# Altium footprint library Connector_PinSocket_1.27mm.PcbLib: 246 footprints (part 14 of 16)
Each footprint in its own frame and in the unit in brackets; x right, y up, seen from the top. Pads: shape width x height; smd on the part's side, far side on the other; paste and mask are expansions set on the pad; w line width, h text height; cw(c..) or ccw(c..) is an arc to the next point about the centre after c.
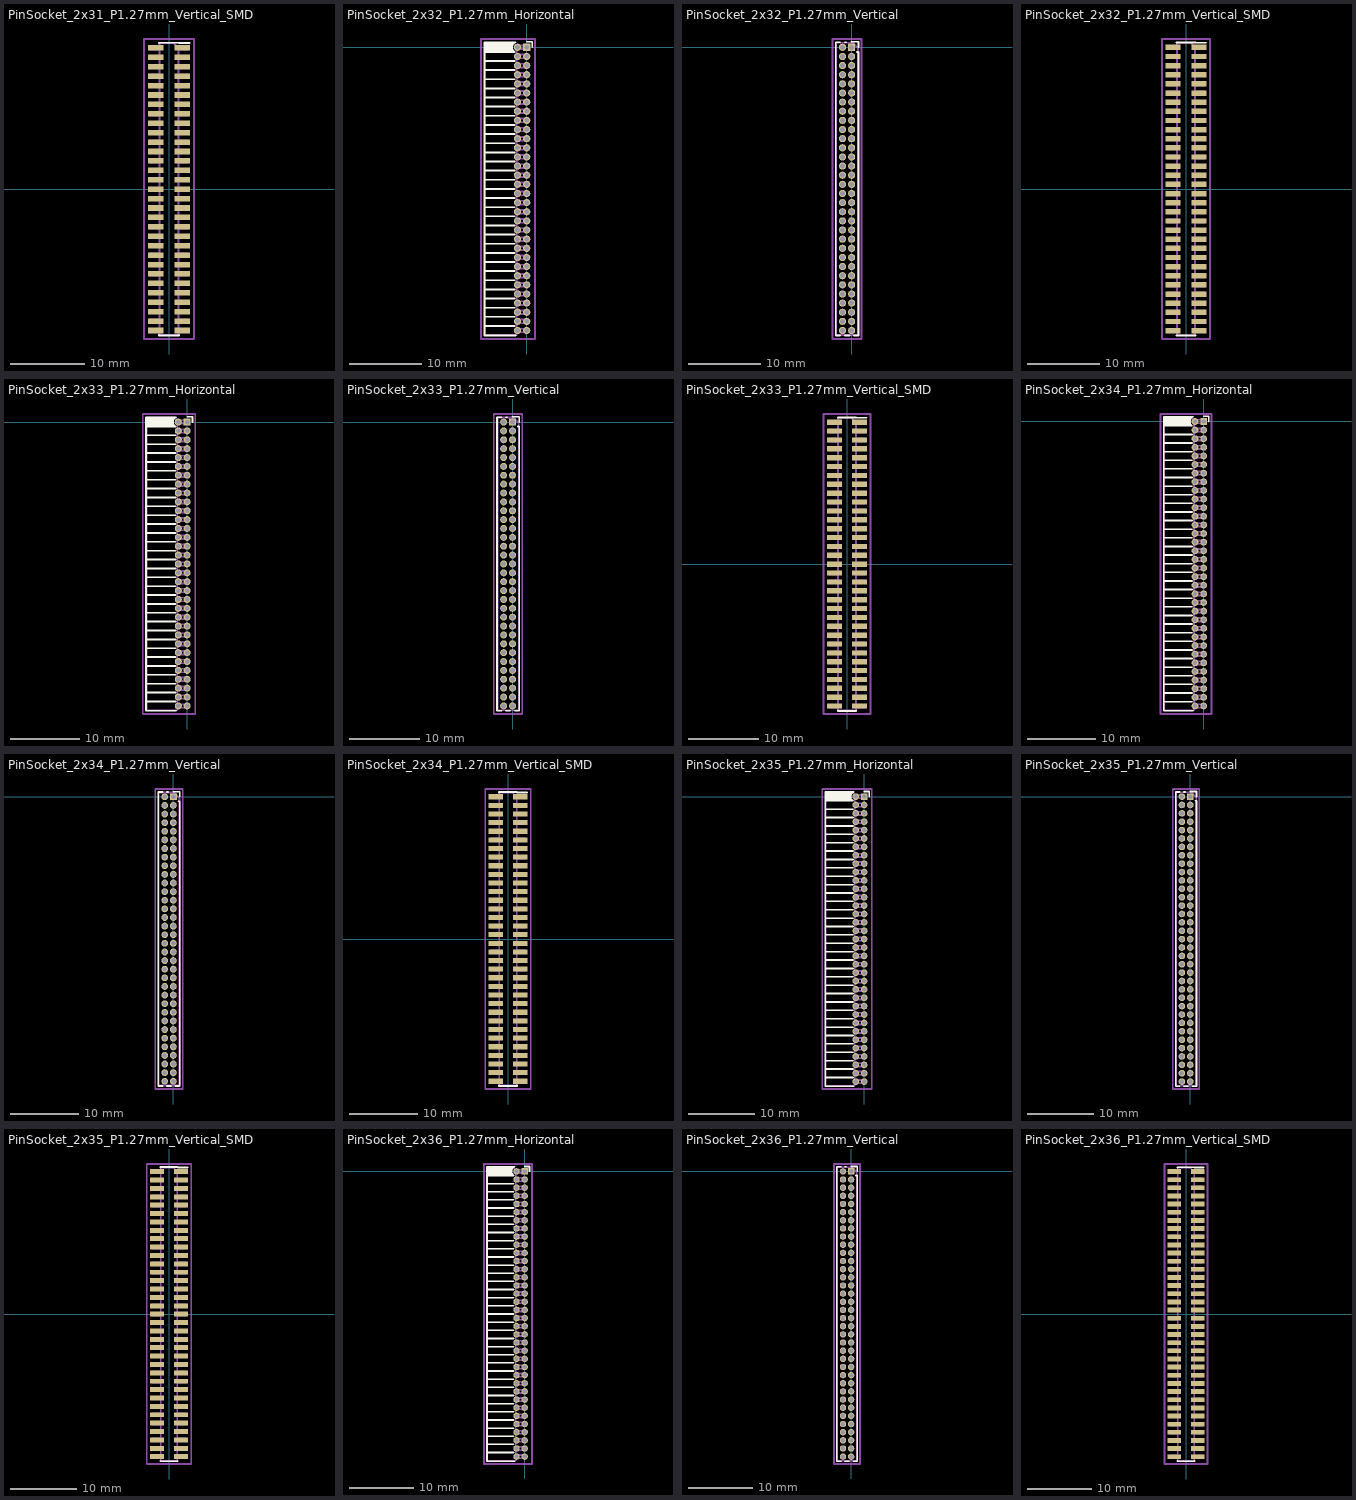
[diagram p13: the footprints below, top view; thin cyan lines are the x and y axes]

## PinSocket_2x31_P1.27mm_Vertical_SMD [mm]
pads (62):
  rect 2.1x0.75 smd: 1(1.8,19.05) 2(-1.8,19.05) 3(1.8,17.78) 4(-1.8,17.78) 5(1.8,16.51) 6(-1.8,16.51) 7(1.8,15.24) 8(-1.8,15.24) 9(1.8,13.97) 10(-1.8,13.97) 11(1.8,12.7) 12(-1.8,12.7) 13(1.8,11.43) 14(-1.8,11.43) 15(1.8,10.16) 16(-1.8,10.16) 17(1.8,8.89) 18(-1.8,8.89) 19(1.8,7.62) 20(-1.8,7.62) 21(1.8,6.35) 22(-1.8,6.35) 23(1.8,5.08) 24(-1.8,5.08) 25(1.8,3.81) 26(-1.8,3.81) 27(1.8,2.54) 28(-1.8,2.54) 29(1.8,1.27) 30(-1.8,1.27) 31(1.8,0) 32(-1.8,0) 33(1.8,-1.27) 34(-1.8,-1.27) 35(1.8,-2.54) 36(-1.8,-2.54) 37(1.8,-3.81) 38(-1.8,-3.81) 39(1.8,-5.08) 40(-1.8,-5.08) 41(1.8,-6.35) 42(-1.8,-6.35) 43(1.8,-7.62) 44(-1.8,-7.62) 45(1.8,-8.89) 46(-1.8,-8.89) 47(1.8,-10.16) 48(-1.8,-10.16) 49(1.8,-11.43) 50(-1.8,-11.43) 51(1.8,-12.7) 52(-1.8,-12.7) 53(1.8,-13.97) 54(-1.8,-13.97) 55(1.8,-15.24) 56(-1.8,-15.24) 57(1.8,-16.51) 58(-1.8,-16.51) 59(1.8,-17.78) 60(-1.8,-17.78) 61(1.8,-19.05) 62(-1.8,-19.05)
F.SilkS:
  lines w0.254: -1.33,-19.685 -1.33,-19.745 1.33,-19.745 1.33,-19.685 ; -1.33,19.685 -1.33,19.745 1.33,19.745 1.33,19.685 2.79,19.685
Top Assembly:
  drawing of 191 lines, arcs and shapes, not listed
  text "'.Designator'" at 0.84,-4.047 h1
Top Courtyard:
  lines w0.254: -3.35,-20.2 3.35,-20.2 3.35,20.25 -3.35,20.25 -3.35,-20.2
Top Designator:
  text ".Designator" at -7.618,-0.483 h1.52

## PinSocket_2x32_P1.27mm_Horizontal [mm]
pads (64):
  rect 1x1 hole 0.65: 1(0,0)
  round 1 hole 0.65: 2(-1.27,0) 3(0,-1.27) 4(-1.27,-1.27) 5(0,-2.54) 6(-1.27,-2.54) 7(0,-3.81) 8(-1.27,-3.81) 9(0,-5.08) 10(-1.27,-5.08) 11(0,-6.35) 12(-1.27,-6.35) 13(0,-7.62) 14(-1.27,-7.62) 15(0,-8.89) 16(-1.27,-8.89) 17(0,-10.16) 18(-1.27,-10.16) 19(0,-11.43) 20(-1.27,-11.43) 21(0,-12.7) 22(-1.27,-12.7) 23(0,-13.97) 24(-1.27,-13.97) 25(0,-15.24) 26(-1.27,-15.24) 27(0,-16.51) 28(-1.27,-16.51) 29(0,-17.78) 30(-1.27,-17.78) 31(0,-19.05) 32(-1.27,-19.05) 33(0,-20.32) 34(-1.27,-20.32) 35(0,-21.59) 36(-1.27,-21.59) 37(0,-22.86) 38(-1.27,-22.86) 39(0,-24.13) 40(-1.27,-24.13) 41(0,-25.4) 42(-1.27,-25.4) 43(0,-26.67) 44(-1.27,-26.67) 45(0,-27.94) 46(-1.27,-27.94) 47(0,-29.21) 48(-1.27,-29.21) 49(0,-30.48) 50(-1.27,-30.48) 51(0,-31.75) 52(-1.27,-31.75) 53(0,-33.02) 54(-1.27,-33.02) 55(0,-34.29) 56(-1.27,-34.29) 57(0,-35.56) 58(-1.27,-35.56) 59(0,-36.83) 60(-1.27,-36.83) 61(0,-38.1) 62(-1.27,-38.1) 63(0,-39.37) 64(-1.27,-39.37)
F.SilkS:
  lines w0.254: -5.88,-38.735 -1.688,-38.735 ; -5.88,-37.465 -1.688,-37.465 ; -5.88,-36.195 -1.688,-36.195 ; -5.88,-34.925 -1.688,-34.925 ; -5.88,-33.655 -1.688,-33.655 ; -5.88,-32.385 -1.688,-32.385 ; -5.88,-31.115 -1.688,-31.115 ; -5.88,-29.845 -1.688,-29.845 ; -5.88,-28.575 -1.688,-28.575 ; -5.88,-27.305 -1.688,-27.305 ; -5.88,-26.035 -1.688,-26.035 ; -5.88,-24.765 -1.688,-24.765 ; -5.88,-23.495 -1.688,-23.495 ; -5.88,-22.225 -1.688,-22.225 ; -5.88,-20.955 -1.688,-20.955 ; -5.88,-19.685 -1.688,-19.685 ; -5.88,-18.415 -1.688,-18.415 ; -5.88,-17.145 -1.688,-17.145 ; -5.88,-15.875 -1.688,-15.875 ; -5.88,-14.605 -1.688,-14.605 ; -5.88,-13.335 -1.688,-13.335 ; -5.88,-12.065 -1.688,-12.065 ; -5.88,-10.795 -1.688,-10.795 ; -5.88,-9.525 -1.688,-9.525 ; -5.88,-8.255 -1.688,-8.255 ; -5.88,-6.985 -1.688,-6.985 ; -5.88,-5.715 -1.688,-5.715 ; -5.88,-4.445 -1.688,-4.445 ; -5.88,-3.175 -1.688,-3.175 ; -5.88,-1.905 -1.688,-1.905 ; -5.88,-0.635 -1.688,-0.635 ; -5.88,-0.525 -1.82,-0.525 ; -5.88,-0.415 -1.907,-0.415 ; -5.88,-0.305 -1.966,-0.305 ; -5.88,-0.195 -2.005,-0.195 ; -5.88,-0.085 -2.025,-0.085 ; -5.88,0.025 -2.03,0.025 ; -5.88,0.135 -2.018,0.135 ; -5.88,0.245 -1.989,0.245 ; -5.88,0.355 -1.942,0.355 ; -5.88,0.465 -1.871,0.465 ; -5.88,0.575 -1.767,0.575 ; -1.578,-40.065 -5.88,-40.065 -5.88,0.695 -1.578,0.695 ; 0,0.76 0.76,0.76 0.76,0
Top Assembly:
  lines w0.254: -1.42,-39.62 0,-39.62 0,-39.12 -1.42,-39.12 ; -1.42,-38.35 0,-38.35 0,-37.85 -1.42,-37.85 ; -1.42,-37.08 0,-37.08 0,-36.58 -1.42,-36.58 ; -1.42,-35.81 0,-35.81 0,-35.31 -1.42,-35.31 ; -1.42,-34.54 0,-34.54 0,-34.04 -1.42,-34.04 ; -1.42,-33.27 0,-33.27 0,-32.77 -1.42,-32.77 ; -1.42,-32 0,-32 0,-31.5 -1.42,-31.5 ; -1.42,-30.73 0,-30.73 0,-30.23 -1.42,-30.23 ; -1.42,-29.46 0,-29.46 0,-28.96 -1.42,-28.96 ; -1.42,-28.19 0,-28.19 0,-27.69 -1.42,-27.69 ; -1.42,-26.92 0,-26.92 0,-26.42 -1.42,-26.42 ; -1.42,-25.65 0,-25.65 0,-25.15 -1.42,-25.15 ; -1.42,-24.38 0,-24.38 0,-23.88 -1.42,-23.88 ; -1.42,-23.11 0,-23.11 0,-22.61 -1.42,-22.61 ; -1.42,-21.84 0,-21.84 0,-21.34 -1.42,-21.34 ; -1.42,-20.57 0,-20.57 0,-20.07 -1.42,-20.07 ; -1.42,-19.3 0,-19.3 0,-18.8 -1.42,-18.8 ; -1.42,-18.03 0,-18.03 0,-17.53 -1.42,-17.53 ; -1.42,-16.76 0,-16.76 0,-16.26 -1.42,-16.26 ; -1.42,-15.49 0,-15.49 0,-14.99 -1.42,-14.99 ; -1.42,-14.22 0,-14.22 0,-13.72 -1.42,-13.72 ; -1.42,-12.95 0,-12.95 0,-12.45 -1.42,-12.45 ; -1.42,-11.68 0,-11.68 0,-11.18 -1.42,-11.18 ; -1.42,-10.41 0,-10.41 0,-9.91 -1.42,-9.91 ; -1.42,-9.14 0,-9.14 0,-8.64 -1.42,-8.64 ; -1.42,-7.87 0,-7.87 0,-7.37 -1.42,-7.37 ; -1.42,-6.6 0,-6.6 0,-6.1 -1.42,-6.1 ; -1.42,-5.33 0,-5.33 0,-4.83 -1.42,-4.83 ; -1.42,-4.06 0,-4.06 0,-3.56 -1.42,-3.56 ; -1.42,-2.79 0,-2.79 0,-2.29 -1.42,-2.29 ; -1.42,-1.52 0,-1.52 0,-1.02 -1.42,-1.02 ; -1.42,-0.25 0,-0.25 0,0.25 -1.42,0.25 ; -1.42,0.25 -1.42,-40.005 -5.82,-40.005 -5.82,0.635 -1.805,0.635 -1.42,0.25
  text "'.Designator'" at -2.78,-23.732 h1
Top Courtyard:
  lines w0.254: -6.35,-40.55 1.15,-40.55 1.15,1.15 -6.35,1.15 -6.35,-40.55
Top Designator:
  text ".Designator" at -10.218,-20.208 h1.52

## PinSocket_2x32_P1.27mm_Vertical [mm]
pads (64):
  rect 1x1 hole 0.7: 1(0,0)
  round 1 hole 0.7: 2(-1.27,0) 3(0,-1.27) 4(-1.27,-1.27) 5(0,-2.54) 6(-1.27,-2.54) 7(0,-3.81) 8(-1.27,-3.81) 9(0,-5.08) 10(-1.27,-5.08) 11(0,-6.35) 12(-1.27,-6.35) 13(0,-7.62) 14(-1.27,-7.62) 15(0,-8.89) 16(-1.27,-8.89) 17(0,-10.16) 18(-1.27,-10.16) 19(0,-11.43) 20(-1.27,-11.43) 21(0,-12.7) 22(-1.27,-12.7) 23(0,-13.97) 24(-1.27,-13.97) 25(0,-15.24) 26(-1.27,-15.24) 27(0,-16.51) 28(-1.27,-16.51) 29(0,-17.78) 30(-1.27,-17.78) 31(0,-19.05) 32(-1.27,-19.05) 33(0,-20.32) 34(-1.27,-20.32) 35(0,-21.59) 36(-1.27,-21.59) 37(0,-22.86) 38(-1.27,-22.86) 39(0,-24.13) 40(-1.27,-24.13) 41(0,-25.4) 42(-1.27,-25.4) 43(0,-26.67) 44(-1.27,-26.67) 45(0,-27.94) 46(-1.27,-27.94) 47(0,-29.21) 48(-1.27,-29.21) 49(0,-30.48) 50(-1.27,-30.48) 51(0,-31.75) 52(-1.27,-31.75) 53(0,-33.02) 54(-1.27,-33.02) 55(0,-34.29) 56(-1.27,-34.29) 57(0,-35.56) 58(-1.27,-35.56) 59(0,-36.83) 60(-1.27,-36.83) 61(0,-38.1) 62(-1.27,-38.1) 63(0,-39.37) 64(-1.27,-39.37)
F.SilkS:
  lines w0.254: -1.578,-40.065 -2.22,-40.065 -2.22,0.695 -1.578,0.695 ; -0.962,-40.065 -0.308,-40.065 ; -0.962,0.695 -0.76,0.695 ; 0,0.76 0.95,0.76 0.95,0 ; 0.308,-40.065 0.95,-40.065 0.95,-0.635 0.76,-0.635
Top Assembly:
  lines w0.254: -2.16,-40.005 0.89,-40.005 0.89,-0.128 0.128,0.635 -2.16,0.635 -2.16,-40.005
  text "'.Designator'" at 0.205,-23.732 h1
Top Courtyard:
  lines w0.254: -2.67,-40.55 1.38,-40.55 1.38,1.15 -2.67,1.15 -2.67,-40.55
Top Designator:
  text ".Designator" at -8.263,-20.208 h1.52

## PinSocket_2x32_P1.27mm_Vertical_SMD [mm]
pads (64):
  rect 2.1x0.75 smd: 1(1.8,19.685) 2(-1.8,19.685) 3(1.8,18.415) 4(-1.8,18.415) 5(1.8,17.145) 6(-1.8,17.145) 7(1.8,15.875) 8(-1.8,15.875) 9(1.8,14.605) 10(-1.8,14.605) 11(1.8,13.335) 12(-1.8,13.335) 13(1.8,12.065) 14(-1.8,12.065) 15(1.8,10.795) 16(-1.8,10.795) 17(1.8,9.525) 18(-1.8,9.525) 19(1.8,8.255) 20(-1.8,8.255) 21(1.8,6.985) 22(-1.8,6.985) 23(1.8,5.715) 24(-1.8,5.715) 25(1.8,4.445) 26(-1.8,4.445) 27(1.8,3.175) 28(-1.8,3.175) 29(1.8,1.905) 30(-1.8,1.905) 31(1.8,0.635) 32(-1.8,0.635) 33(1.8,-0.635) 34(-1.8,-0.635) 35(1.8,-1.905) 36(-1.8,-1.905) 37(1.8,-3.175) 38(-1.8,-3.175) 39(1.8,-4.445) 40(-1.8,-4.445) 41(1.8,-5.715) 42(-1.8,-5.715) 43(1.8,-6.985) 44(-1.8,-6.985) 45(1.8,-8.255) 46(-1.8,-8.255) 47(1.8,-9.525) 48(-1.8,-9.525) 49(1.8,-10.795) 50(-1.8,-10.795) 51(1.8,-12.065) 52(-1.8,-12.065) 53(1.8,-13.335) 54(-1.8,-13.335) 55(1.8,-14.605) 56(-1.8,-14.605) 57(1.8,-15.875) 58(-1.8,-15.875) 59(1.8,-17.145) 60(-1.8,-17.145) 61(1.8,-18.415) 62(-1.8,-18.415) 63(1.8,-19.685) 64(-1.8,-19.685)
F.SilkS:
  lines w0.254: -1.33,-20.32 -1.33,-20.38 1.33,-20.38 1.33,-20.32 ; -1.33,20.32 -1.33,20.38 1.33,20.38 1.33,20.32 2.79,20.32
Top Assembly:
  drawing of 197 lines, arcs and shapes, not listed
  text "'.Designator'" at 0.84,-4.047 h1
Top Courtyard:
  lines w0.254: -3.35,-20.85 3.35,-20.85 3.35,20.85 -3.35,20.85 -3.35,-20.85
Top Designator:
  text ".Designator" at -7.618,-0.508 h1.52

## PinSocket_2x33_P1.27mm_Horizontal [mm]
pads (66):
  rect 1x1 hole 0.65: 1(0,0)
  round 1 hole 0.65: 2(-1.27,0) 3(0,-1.27) 4(-1.27,-1.27) 5(0,-2.54) 6(-1.27,-2.54) 7(0,-3.81) 8(-1.27,-3.81) 9(0,-5.08) 10(-1.27,-5.08) 11(0,-6.35) 12(-1.27,-6.35) 13(0,-7.62) 14(-1.27,-7.62) 15(0,-8.89) 16(-1.27,-8.89) 17(0,-10.16) 18(-1.27,-10.16) 19(0,-11.43) 20(-1.27,-11.43) 21(0,-12.7) 22(-1.27,-12.7) 23(0,-13.97) 24(-1.27,-13.97) 25(0,-15.24) 26(-1.27,-15.24) 27(0,-16.51) 28(-1.27,-16.51) 29(0,-17.78) 30(-1.27,-17.78) 31(0,-19.05) 32(-1.27,-19.05) 33(0,-20.32) 34(-1.27,-20.32) 35(0,-21.59) 36(-1.27,-21.59) 37(0,-22.86) 38(-1.27,-22.86) 39(0,-24.13) 40(-1.27,-24.13) 41(0,-25.4) 42(-1.27,-25.4) 43(0,-26.67) 44(-1.27,-26.67) 45(0,-27.94) 46(-1.27,-27.94) 47(0,-29.21) 48(-1.27,-29.21) 49(0,-30.48) 50(-1.27,-30.48) 51(0,-31.75) 52(-1.27,-31.75) 53(0,-33.02) 54(-1.27,-33.02) 55(0,-34.29) 56(-1.27,-34.29) 57(0,-35.56) 58(-1.27,-35.56) 59(0,-36.83) 60(-1.27,-36.83) 61(0,-38.1) 62(-1.27,-38.1) 63(0,-39.37) 64(-1.27,-39.37) 65(0,-40.64) 66(-1.27,-40.64)
F.SilkS:
  lines w0.254: -5.88,-40.005 -1.688,-40.005 ; -5.88,-38.735 -1.688,-38.735 ; -5.88,-37.465 -1.688,-37.465 ; -5.88,-36.195 -1.688,-36.195 ; -5.88,-34.925 -1.688,-34.925 ; -5.88,-33.655 -1.688,-33.655 ; -5.88,-32.385 -1.688,-32.385 ; -5.88,-31.115 -1.688,-31.115 ; -5.88,-29.845 -1.688,-29.845 ; -5.88,-28.575 -1.688,-28.575 ; -5.88,-27.305 -1.688,-27.305 ; -5.88,-26.035 -1.688,-26.035 ; -5.88,-24.765 -1.688,-24.765 ; -5.88,-23.495 -1.688,-23.495 ; -5.88,-22.225 -1.688,-22.225 ; -5.88,-20.955 -1.688,-20.955 ; -5.88,-19.685 -1.688,-19.685 ; -5.88,-18.415 -1.688,-18.415 ; -5.88,-17.145 -1.688,-17.145 ; -5.88,-15.875 -1.688,-15.875 ; -5.88,-14.605 -1.688,-14.605 ; -5.88,-13.335 -1.688,-13.335 ; -5.88,-12.065 -1.688,-12.065 ; -5.88,-10.795 -1.688,-10.795 ; -5.88,-9.525 -1.688,-9.525 ; -5.88,-8.255 -1.688,-8.255 ; -5.88,-6.985 -1.688,-6.985 ; -5.88,-5.715 -1.688,-5.715 ; -5.88,-4.445 -1.688,-4.445 ; -5.88,-3.175 -1.688,-3.175 ; -5.88,-1.905 -1.688,-1.905 ; -5.88,-0.635 -1.688,-0.635 ; -5.88,-0.525 -1.82,-0.525 ; -5.88,-0.415 -1.907,-0.415 ; -5.88,-0.305 -1.966,-0.305 ; -5.88,-0.195 -2.005,-0.195 ; -5.88,-0.085 -2.025,-0.085 ; -5.88,0.025 -2.03,0.025 ; -5.88,0.135 -2.018,0.135 ; -5.88,0.245 -1.989,0.245 ; -5.88,0.355 -1.942,0.355 ; -5.88,0.465 -1.871,0.465 ; -5.88,0.575 -1.767,0.575 ; -1.578,-41.335 -5.88,-41.335 -5.88,0.695 -1.578,0.695 ; 0,0.76 0.76,0.76 0.76,0
Top Assembly:
  lines w0.254: -1.42,-40.89 0,-40.89 0,-40.39 -1.42,-40.39 ; -1.42,-39.62 0,-39.62 0,-39.12 -1.42,-39.12 ; -1.42,-38.35 0,-38.35 0,-37.85 -1.42,-37.85 ; -1.42,-37.08 0,-37.08 0,-36.58 -1.42,-36.58 ; -1.42,-35.81 0,-35.81 0,-35.31 -1.42,-35.31 ; -1.42,-34.54 0,-34.54 0,-34.04 -1.42,-34.04 ; -1.42,-33.27 0,-33.27 0,-32.77 -1.42,-32.77 ; -1.42,-32 0,-32 0,-31.5 -1.42,-31.5 ; -1.42,-30.73 0,-30.73 0,-30.23 -1.42,-30.23 ; -1.42,-29.46 0,-29.46 0,-28.96 -1.42,-28.96 ; -1.42,-28.19 0,-28.19 0,-27.69 -1.42,-27.69 ; -1.42,-26.92 0,-26.92 0,-26.42 -1.42,-26.42 ; -1.42,-25.65 0,-25.65 0,-25.15 -1.42,-25.15 ; -1.42,-24.38 0,-24.38 0,-23.88 -1.42,-23.88 ; -1.42,-23.11 0,-23.11 0,-22.61 -1.42,-22.61 ; -1.42,-21.84 0,-21.84 0,-21.34 -1.42,-21.34 ; -1.42,-20.57 0,-20.57 0,-20.07 -1.42,-20.07 ; -1.42,-19.3 0,-19.3 0,-18.8 -1.42,-18.8 ; -1.42,-18.03 0,-18.03 0,-17.53 -1.42,-17.53 ; -1.42,-16.76 0,-16.76 0,-16.26 -1.42,-16.26 ; -1.42,-15.49 0,-15.49 0,-14.99 -1.42,-14.99 ; -1.42,-14.22 0,-14.22 0,-13.72 -1.42,-13.72 ; -1.42,-12.95 0,-12.95 0,-12.45 -1.42,-12.45 ; -1.42,-11.68 0,-11.68 0,-11.18 -1.42,-11.18 ; -1.42,-10.41 0,-10.41 0,-9.91 -1.42,-9.91 ; -1.42,-9.14 0,-9.14 0,-8.64 -1.42,-8.64 ; -1.42,-7.87 0,-7.87 0,-7.37 -1.42,-7.37 ; -1.42,-6.6 0,-6.6 0,-6.1 -1.42,-6.1 ; -1.42,-5.33 0,-5.33 0,-4.83 -1.42,-4.83 ; -1.42,-4.06 0,-4.06 0,-3.56 -1.42,-3.56 ; -1.42,-2.79 0,-2.79 0,-2.29 -1.42,-2.29 ; -1.42,-1.52 0,-1.52 0,-1.02 -1.42,-1.02 ; -1.42,-0.25 0,-0.25 0,0.25 -1.42,0.25 ; -1.42,0.25 -1.42,-41.275 -5.82,-41.275 -5.82,0.635 -1.805,0.635 -1.42,0.25
  text "'.Designator'" at -2.78,-24.367 h1
Top Courtyard:
  lines w0.254: -6.35,-41.8 1.15,-41.8 1.15,1.15 -6.35,1.15 -6.35,-41.8
Top Designator:
  text ".Designator" at -10.218,-20.833 h1.52

## PinSocket_2x33_P1.27mm_Vertical [mm]
pads (66):
  rect 1x1 hole 0.7: 1(0,0)
  round 1 hole 0.7: 2(-1.27,0) 3(0,-1.27) 4(-1.27,-1.27) 5(0,-2.54) 6(-1.27,-2.54) 7(0,-3.81) 8(-1.27,-3.81) 9(0,-5.08) 10(-1.27,-5.08) 11(0,-6.35) 12(-1.27,-6.35) 13(0,-7.62) 14(-1.27,-7.62) 15(0,-8.89) 16(-1.27,-8.89) 17(0,-10.16) 18(-1.27,-10.16) 19(0,-11.43) 20(-1.27,-11.43) 21(0,-12.7) 22(-1.27,-12.7) 23(0,-13.97) 24(-1.27,-13.97) 25(0,-15.24) 26(-1.27,-15.24) 27(0,-16.51) 28(-1.27,-16.51) 29(0,-17.78) 30(-1.27,-17.78) 31(0,-19.05) 32(-1.27,-19.05) 33(0,-20.32) 34(-1.27,-20.32) 35(0,-21.59) 36(-1.27,-21.59) 37(0,-22.86) 38(-1.27,-22.86) 39(0,-24.13) 40(-1.27,-24.13) 41(0,-25.4) 42(-1.27,-25.4) 43(0,-26.67) 44(-1.27,-26.67) 45(0,-27.94) 46(-1.27,-27.94) 47(0,-29.21) 48(-1.27,-29.21) 49(0,-30.48) 50(-1.27,-30.48) 51(0,-31.75) 52(-1.27,-31.75) 53(0,-33.02) 54(-1.27,-33.02) 55(0,-34.29) 56(-1.27,-34.29) 57(0,-35.56) 58(-1.27,-35.56) 59(0,-36.83) 60(-1.27,-36.83) 61(0,-38.1) 62(-1.27,-38.1) 63(0,-39.37) 64(-1.27,-39.37) 65(0,-40.64) 66(-1.27,-40.64)
F.SilkS:
  lines w0.254: -1.578,-41.335 -2.22,-41.335 -2.22,0.695 -1.578,0.695 ; -0.962,-41.335 -0.308,-41.335 ; -0.962,0.695 -0.76,0.695 ; 0,0.76 0.95,0.76 0.95,0 ; 0.308,-41.335 0.95,-41.335 0.95,-0.635 0.76,-0.635
Top Assembly:
  lines w0.254: -2.16,-41.275 0.89,-41.275 0.89,-0.128 0.128,0.635 -2.16,0.635 -2.16,-41.275
  text "'.Designator'" at 0.205,-24.367 h1
Top Courtyard:
  lines w0.254: -2.67,-41.8 1.38,-41.8 1.38,1.15 -2.67,1.15 -2.67,-41.8
Top Designator:
  text ".Designator" at -8.263,-20.833 h1.52

## PinSocket_2x33_P1.27mm_Vertical_SMD [mm]
pads (66):
  rect 2.1x0.75 smd: 1(1.8,20.32) 2(-1.8,20.32) 3(1.8,19.05) 4(-1.8,19.05) 5(1.8,17.78) 6(-1.8,17.78) 7(1.8,16.51) 8(-1.8,16.51) 9(1.8,15.24) 10(-1.8,15.24) 11(1.8,13.97) 12(-1.8,13.97) 13(1.8,12.7) 14(-1.8,12.7) 15(1.8,11.43) 16(-1.8,11.43) 17(1.8,10.16) 18(-1.8,10.16) 19(1.8,8.89) 20(-1.8,8.89) 21(1.8,7.62) 22(-1.8,7.62) 23(1.8,6.35) 24(-1.8,6.35) 25(1.8,5.08) 26(-1.8,5.08) 27(1.8,3.81) 28(-1.8,3.81) 29(1.8,2.54) 30(-1.8,2.54) 31(1.8,1.27) 32(-1.8,1.27) 33(1.8,0) 34(-1.8,0) 35(1.8,-1.27) 36(-1.8,-1.27) 37(1.8,-2.54) 38(-1.8,-2.54) 39(1.8,-3.81) 40(-1.8,-3.81) 41(1.8,-5.08) 42(-1.8,-5.08) 43(1.8,-6.35) 44(-1.8,-6.35) 45(1.8,-7.62) 46(-1.8,-7.62) 47(1.8,-8.89) 48(-1.8,-8.89) 49(1.8,-10.16) 50(-1.8,-10.16) 51(1.8,-11.43) 52(-1.8,-11.43) 53(1.8,-12.7) 54(-1.8,-12.7) 55(1.8,-13.97) 56(-1.8,-13.97) 57(1.8,-15.24) 58(-1.8,-15.24) 59(1.8,-16.51) 60(-1.8,-16.51) 61(1.8,-17.78) 62(-1.8,-17.78) 63(1.8,-19.05) 64(-1.8,-19.05) 65(1.8,-20.32) 66(-1.8,-20.32)
F.SilkS:
  lines w0.254: -1.33,-20.955 -1.33,-21.015 1.33,-21.015 1.33,-20.955 ; -1.33,20.955 -1.33,21.015 1.33,21.015 1.33,20.955 2.79,20.955
Top Assembly:
  drawing of 203 lines, arcs and shapes, not listed
  text "'.Designator'" at 0.84,-4.047 h1
Top Courtyard:
  lines w0.254: -3.35,-21.45 3.35,-21.45 3.35,21.5 -3.35,21.5 -3.35,-21.45
Top Designator:
  text ".Designator" at -7.618,-0.483 h1.52

## PinSocket_2x34_P1.27mm_Horizontal [mm]
pads (68):
  rect 1x1 hole 0.65: 1(0,0)
  round 1 hole 0.65: 2(-1.27,0) 3(0,-1.27) 4(-1.27,-1.27) 5(0,-2.54) 6(-1.27,-2.54) 7(0,-3.81) 8(-1.27,-3.81) 9(0,-5.08) 10(-1.27,-5.08) 11(0,-6.35) 12(-1.27,-6.35) 13(0,-7.62) 14(-1.27,-7.62) 15(0,-8.89) 16(-1.27,-8.89) 17(0,-10.16) 18(-1.27,-10.16) 19(0,-11.43) 20(-1.27,-11.43) 21(0,-12.7) 22(-1.27,-12.7) 23(0,-13.97) 24(-1.27,-13.97) 25(0,-15.24) 26(-1.27,-15.24) 27(0,-16.51) 28(-1.27,-16.51) 29(0,-17.78) 30(-1.27,-17.78) 31(0,-19.05) 32(-1.27,-19.05) 33(0,-20.32) 34(-1.27,-20.32) 35(0,-21.59) 36(-1.27,-21.59) 37(0,-22.86) 38(-1.27,-22.86) 39(0,-24.13) 40(-1.27,-24.13) 41(0,-25.4) 42(-1.27,-25.4) 43(0,-26.67) 44(-1.27,-26.67) 45(0,-27.94) 46(-1.27,-27.94) 47(0,-29.21) 48(-1.27,-29.21) 49(0,-30.48) 50(-1.27,-30.48) 51(0,-31.75) 52(-1.27,-31.75) 53(0,-33.02) 54(-1.27,-33.02) 55(0,-34.29) 56(-1.27,-34.29) 57(0,-35.56) 58(-1.27,-35.56) 59(0,-36.83) 60(-1.27,-36.83) 61(0,-38.1) 62(-1.27,-38.1) 63(0,-39.37) 64(-1.27,-39.37) 65(0,-40.64) 66(-1.27,-40.64) 67(0,-41.91) 68(-1.27,-41.91)
F.SilkS:
  lines w0.254: -5.88,-41.275 -1.688,-41.275 ; -5.88,-40.005 -1.688,-40.005 ; -5.88,-38.735 -1.688,-38.735 ; -5.88,-37.465 -1.688,-37.465 ; -5.88,-36.195 -1.688,-36.195 ; -5.88,-34.925 -1.688,-34.925 ; -5.88,-33.655 -1.688,-33.655 ; -5.88,-32.385 -1.688,-32.385 ; -5.88,-31.115 -1.688,-31.115 ; -5.88,-29.845 -1.688,-29.845 ; -5.88,-28.575 -1.688,-28.575 ; -5.88,-27.305 -1.688,-27.305 ; -5.88,-26.035 -1.688,-26.035 ; -5.88,-24.765 -1.688,-24.765 ; -5.88,-23.495 -1.688,-23.495 ; -5.88,-22.225 -1.688,-22.225 ; -5.88,-20.955 -1.688,-20.955 ; -5.88,-19.685 -1.688,-19.685 ; -5.88,-18.415 -1.688,-18.415 ; -5.88,-17.145 -1.688,-17.145 ; -5.88,-15.875 -1.688,-15.875 ; -5.88,-14.605 -1.688,-14.605 ; -5.88,-13.335 -1.688,-13.335 ; -5.88,-12.065 -1.688,-12.065 ; -5.88,-10.795 -1.688,-10.795 ; -5.88,-9.525 -1.688,-9.525 ; -5.88,-8.255 -1.688,-8.255 ; -5.88,-6.985 -1.688,-6.985 ; -5.88,-5.715 -1.688,-5.715 ; -5.88,-4.445 -1.688,-4.445 ; -5.88,-3.175 -1.688,-3.175 ; -5.88,-1.905 -1.688,-1.905 ; -5.88,-0.635 -1.688,-0.635 ; -5.88,-0.525 -1.82,-0.525 ; -5.88,-0.415 -1.907,-0.415 ; -5.88,-0.305 -1.966,-0.305 ; -5.88,-0.195 -2.005,-0.195 ; -5.88,-0.085 -2.025,-0.085 ; -5.88,0.025 -2.03,0.025 ; -5.88,0.135 -2.018,0.135 ; -5.88,0.245 -1.989,0.245 ; -5.88,0.355 -1.942,0.355 ; -5.88,0.465 -1.871,0.465 ; -5.88,0.575 -1.767,0.575 ; -1.578,-42.605 -5.88,-42.605 -5.88,0.695 -1.578,0.695 ; 0,0.76 0.76,0.76 0.76,0
Top Assembly:
  lines w0.254: -1.42,-42.16 0,-42.16 0,-41.66 -1.42,-41.66 ; -1.42,-40.89 0,-40.89 0,-40.39 -1.42,-40.39 ; -1.42,-39.62 0,-39.62 0,-39.12 -1.42,-39.12 ; -1.42,-38.35 0,-38.35 0,-37.85 -1.42,-37.85 ; -1.42,-37.08 0,-37.08 0,-36.58 -1.42,-36.58 ; -1.42,-35.81 0,-35.81 0,-35.31 -1.42,-35.31 ; -1.42,-34.54 0,-34.54 0,-34.04 -1.42,-34.04 ; -1.42,-33.27 0,-33.27 0,-32.77 -1.42,-32.77 ; -1.42,-32 0,-32 0,-31.5 -1.42,-31.5 ; -1.42,-30.73 0,-30.73 0,-30.23 -1.42,-30.23 ; -1.42,-29.46 0,-29.46 0,-28.96 -1.42,-28.96 ; -1.42,-28.19 0,-28.19 0,-27.69 -1.42,-27.69 ; -1.42,-26.92 0,-26.92 0,-26.42 -1.42,-26.42 ; -1.42,-25.65 0,-25.65 0,-25.15 -1.42,-25.15 ; -1.42,-24.38 0,-24.38 0,-23.88 -1.42,-23.88 ; -1.42,-23.11 0,-23.11 0,-22.61 -1.42,-22.61 ; -1.42,-21.84 0,-21.84 0,-21.34 -1.42,-21.34 ; -1.42,-20.57 0,-20.57 0,-20.07 -1.42,-20.07 ; -1.42,-19.3 0,-19.3 0,-18.8 -1.42,-18.8 ; -1.42,-18.03 0,-18.03 0,-17.53 -1.42,-17.53 ; -1.42,-16.76 0,-16.76 0,-16.26 -1.42,-16.26 ; -1.42,-15.49 0,-15.49 0,-14.99 -1.42,-14.99 ; -1.42,-14.22 0,-14.22 0,-13.72 -1.42,-13.72 ; -1.42,-12.95 0,-12.95 0,-12.45 -1.42,-12.45 ; -1.42,-11.68 0,-11.68 0,-11.18 -1.42,-11.18 ; -1.42,-10.41 0,-10.41 0,-9.91 -1.42,-9.91 ; -1.42,-9.14 0,-9.14 0,-8.64 -1.42,-8.64 ; -1.42,-7.87 0,-7.87 0,-7.37 -1.42,-7.37 ; -1.42,-6.6 0,-6.6 0,-6.1 -1.42,-6.1 ; -1.42,-5.33 0,-5.33 0,-4.83 -1.42,-4.83 ; -1.42,-4.06 0,-4.06 0,-3.56 -1.42,-3.56 ; -1.42,-2.79 0,-2.79 0,-2.29 -1.42,-2.29 ; -1.42,-1.52 0,-1.52 0,-1.02 -1.42,-1.02 ; -1.42,-0.25 0,-0.25 0,0.25 -1.42,0.25 ; -1.42,0.25 -1.42,-42.545 -5.82,-42.545 -5.82,0.635 -1.805,0.635 -1.42,0.25
  text "'.Designator'" at -2.78,-25.002 h1
Top Courtyard:
  lines w0.254: -6.35,-43.1 1.15,-43.1 1.15,1.1 -6.35,1.1 -6.35,-43.1
Top Designator:
  text ".Designator" at -10.218,-21.508 h1.52

## PinSocket_2x34_P1.27mm_Vertical [mm]
pads (68):
  rect 1x1 hole 0.7: 1(0,0)
  round 1 hole 0.7: 2(-1.27,0) 3(0,-1.27) 4(-1.27,-1.27) 5(0,-2.54) 6(-1.27,-2.54) 7(0,-3.81) 8(-1.27,-3.81) 9(0,-5.08) 10(-1.27,-5.08) 11(0,-6.35) 12(-1.27,-6.35) 13(0,-7.62) 14(-1.27,-7.62) 15(0,-8.89) 16(-1.27,-8.89) 17(0,-10.16) 18(-1.27,-10.16) 19(0,-11.43) 20(-1.27,-11.43) 21(0,-12.7) 22(-1.27,-12.7) 23(0,-13.97) 24(-1.27,-13.97) 25(0,-15.24) 26(-1.27,-15.24) 27(0,-16.51) 28(-1.27,-16.51) 29(0,-17.78) 30(-1.27,-17.78) 31(0,-19.05) 32(-1.27,-19.05) 33(0,-20.32) 34(-1.27,-20.32) 35(0,-21.59) 36(-1.27,-21.59) 37(0,-22.86) 38(-1.27,-22.86) 39(0,-24.13) 40(-1.27,-24.13) 41(0,-25.4) 42(-1.27,-25.4) 43(0,-26.67) 44(-1.27,-26.67) 45(0,-27.94) 46(-1.27,-27.94) 47(0,-29.21) 48(-1.27,-29.21) 49(0,-30.48) 50(-1.27,-30.48) 51(0,-31.75) 52(-1.27,-31.75) 53(0,-33.02) 54(-1.27,-33.02) 55(0,-34.29) 56(-1.27,-34.29) 57(0,-35.56) 58(-1.27,-35.56) 59(0,-36.83) 60(-1.27,-36.83) 61(0,-38.1) 62(-1.27,-38.1) 63(0,-39.37) 64(-1.27,-39.37) 65(0,-40.64) 66(-1.27,-40.64) 67(0,-41.91) 68(-1.27,-41.91)
F.SilkS:
  lines w0.254: -1.578,-42.605 -2.22,-42.605 -2.22,0.695 -1.578,0.695 ; -0.962,-42.605 -0.308,-42.605 ; -0.962,0.695 -0.76,0.695 ; 0,0.76 0.95,0.76 0.95,0 ; 0.308,-42.605 0.95,-42.605 0.95,-0.635 0.76,-0.635
Top Assembly:
  lines w0.254: -2.16,-42.545 0.89,-42.545 0.89,-0.128 0.128,0.635 -2.16,0.635 -2.16,-42.545
  text "'.Designator'" at 0.205,-25.002 h1
Top Courtyard:
  lines w0.254: -2.67,-43.05 1.38,-43.05 1.38,1.15 -2.67,1.15 -2.67,-43.05
Top Designator:
  text ".Designator" at -8.263,-21.458 h1.52

## PinSocket_2x34_P1.27mm_Vertical_SMD [mm]
pads (68):
  rect 2.1x0.75 smd: 1(1.8,20.955) 2(-1.8,20.955) 3(1.8,19.685) 4(-1.8,19.685) 5(1.8,18.415) 6(-1.8,18.415) 7(1.8,17.145) 8(-1.8,17.145) 9(1.8,15.875) 10(-1.8,15.875) 11(1.8,14.605) 12(-1.8,14.605) 13(1.8,13.335) 14(-1.8,13.335) 15(1.8,12.065) 16(-1.8,12.065) 17(1.8,10.795) 18(-1.8,10.795) 19(1.8,9.525) 20(-1.8,9.525) 21(1.8,8.255) 22(-1.8,8.255) 23(1.8,6.985) 24(-1.8,6.985) 25(1.8,5.715) 26(-1.8,5.715) 27(1.8,4.445) 28(-1.8,4.445) 29(1.8,3.175) 30(-1.8,3.175) 31(1.8,1.905) 32(-1.8,1.905) 33(1.8,0.635) 34(-1.8,0.635) 35(1.8,-0.635) 36(-1.8,-0.635) 37(1.8,-1.905) 38(-1.8,-1.905) 39(1.8,-3.175) 40(-1.8,-3.175) 41(1.8,-4.445) 42(-1.8,-4.445) 43(1.8,-5.715) 44(-1.8,-5.715) 45(1.8,-6.985) 46(-1.8,-6.985) 47(1.8,-8.255) 48(-1.8,-8.255) 49(1.8,-9.525) 50(-1.8,-9.525) 51(1.8,-10.795) 52(-1.8,-10.795) 53(1.8,-12.065) 54(-1.8,-12.065) 55(1.8,-13.335) 56(-1.8,-13.335) 57(1.8,-14.605) 58(-1.8,-14.605) 59(1.8,-15.875) 60(-1.8,-15.875) 61(1.8,-17.145) 62(-1.8,-17.145) 63(1.8,-18.415) 64(-1.8,-18.415) 65(1.8,-19.685) 66(-1.8,-19.685) 67(1.8,-20.955) 68(-1.8,-20.955)
F.SilkS:
  lines w0.254: -1.33,-21.59 -1.33,-21.65 1.33,-21.65 1.33,-21.59 ; -1.33,21.59 -1.33,21.65 1.33,21.65 1.33,21.59 2.79,21.59
Top Assembly:
  drawing of 209 lines, arcs and shapes, not listed
  text "'.Designator'" at 0.84,-4.047 h1
Top Courtyard:
  lines w0.254: -3.35,-22.1 3.35,-22.1 3.35,22.1 -3.35,22.1 -3.35,-22.1
Top Designator:
  text ".Designator" at -7.618,-0.508 h1.52

## PinSocket_2x35_P1.27mm_Horizontal [mm]
pads (70):
  rect 1x1 hole 0.65: 1(0,0)
  round 1 hole 0.65: 2(-1.27,0) 3(0,-1.27) 4(-1.27,-1.27) 5(0,-2.54) 6(-1.27,-2.54) 7(0,-3.81) 8(-1.27,-3.81) 9(0,-5.08) 10(-1.27,-5.08) 11(0,-6.35) 12(-1.27,-6.35) 13(0,-7.62) 14(-1.27,-7.62) 15(0,-8.89) 16(-1.27,-8.89) 17(0,-10.16) 18(-1.27,-10.16) 19(0,-11.43) 20(-1.27,-11.43) 21(0,-12.7) 22(-1.27,-12.7) 23(0,-13.97) 24(-1.27,-13.97) 25(0,-15.24) 26(-1.27,-15.24) 27(0,-16.51) 28(-1.27,-16.51) 29(0,-17.78) 30(-1.27,-17.78) 31(0,-19.05) 32(-1.27,-19.05) 33(0,-20.32) 34(-1.27,-20.32) 35(0,-21.59) 36(-1.27,-21.59) 37(0,-22.86) 38(-1.27,-22.86) 39(0,-24.13) 40(-1.27,-24.13) 41(0,-25.4) 42(-1.27,-25.4) 43(0,-26.67) 44(-1.27,-26.67) 45(0,-27.94) 46(-1.27,-27.94) 47(0,-29.21) 48(-1.27,-29.21) 49(0,-30.48) 50(-1.27,-30.48) 51(0,-31.75) 52(-1.27,-31.75) 53(0,-33.02) 54(-1.27,-33.02) 55(0,-34.29) 56(-1.27,-34.29) 57(0,-35.56) 58(-1.27,-35.56) 59(0,-36.83) 60(-1.27,-36.83) 61(0,-38.1) 62(-1.27,-38.1) 63(0,-39.37) 64(-1.27,-39.37) 65(0,-40.64) 66(-1.27,-40.64) 67(0,-41.91) 68(-1.27,-41.91) 69(0,-43.18) 70(-1.27,-43.18)
F.SilkS:
  lines w0.254: -5.88,-42.545 -1.688,-42.545 ; -5.88,-41.275 -1.688,-41.275 ; -5.88,-40.005 -1.688,-40.005 ; -5.88,-38.735 -1.688,-38.735 ; -5.88,-37.465 -1.688,-37.465 ; -5.88,-36.195 -1.688,-36.195 ; -5.88,-34.925 -1.688,-34.925 ; -5.88,-33.655 -1.688,-33.655 ; -5.88,-32.385 -1.688,-32.385 ; -5.88,-31.115 -1.688,-31.115 ; -5.88,-29.845 -1.688,-29.845 ; -5.88,-28.575 -1.688,-28.575 ; -5.88,-27.305 -1.688,-27.305 ; -5.88,-26.035 -1.688,-26.035 ; -5.88,-24.765 -1.688,-24.765 ; -5.88,-23.495 -1.688,-23.495 ; -5.88,-22.225 -1.688,-22.225 ; -5.88,-20.955 -1.688,-20.955 ; -5.88,-19.685 -1.688,-19.685 ; -5.88,-18.415 -1.688,-18.415 ; -5.88,-17.145 -1.688,-17.145 ; -5.88,-15.875 -1.688,-15.875 ; -5.88,-14.605 -1.688,-14.605 ; -5.88,-13.335 -1.688,-13.335 ; -5.88,-12.065 -1.688,-12.065 ; -5.88,-10.795 -1.688,-10.795 ; -5.88,-9.525 -1.688,-9.525 ; -5.88,-8.255 -1.688,-8.255 ; -5.88,-6.985 -1.688,-6.985 ; -5.88,-5.715 -1.688,-5.715 ; -5.88,-4.445 -1.688,-4.445 ; -5.88,-3.175 -1.688,-3.175 ; -5.88,-1.905 -1.688,-1.905 ; -5.88,-0.635 -1.688,-0.635 ; -5.88,-0.525 -1.82,-0.525 ; -5.88,-0.415 -1.907,-0.415 ; -5.88,-0.305 -1.966,-0.305 ; -5.88,-0.195 -2.005,-0.195 ; -5.88,-0.085 -2.025,-0.085 ; -5.88,0.025 -2.03,0.025 ; -5.88,0.135 -2.018,0.135 ; -5.88,0.245 -1.989,0.245 ; -5.88,0.355 -1.942,0.355 ; -5.88,0.465 -1.871,0.465 ; -5.88,0.575 -1.767,0.575 ; -1.578,-43.875 -5.88,-43.875 -5.88,0.695 -1.578,0.695 ; 0,0.76 0.76,0.76 0.76,0
Top Assembly:
  lines w0.254: -1.42,-43.43 0,-43.43 0,-42.93 -1.42,-42.93 ; -1.42,-42.16 0,-42.16 0,-41.66 -1.42,-41.66 ; -1.42,-40.89 0,-40.89 0,-40.39 -1.42,-40.39 ; -1.42,-39.62 0,-39.62 0,-39.12 -1.42,-39.12 ; -1.42,-38.35 0,-38.35 0,-37.85 -1.42,-37.85 ; -1.42,-37.08 0,-37.08 0,-36.58 -1.42,-36.58 ; -1.42,-35.81 0,-35.81 0,-35.31 -1.42,-35.31 ; -1.42,-34.54 0,-34.54 0,-34.04 -1.42,-34.04 ; -1.42,-33.27 0,-33.27 0,-32.77 -1.42,-32.77 ; -1.42,-32 0,-32 0,-31.5 -1.42,-31.5 ; -1.42,-30.73 0,-30.73 0,-30.23 -1.42,-30.23 ; -1.42,-29.46 0,-29.46 0,-28.96 -1.42,-28.96 ; -1.42,-28.19 0,-28.19 0,-27.69 -1.42,-27.69 ; -1.42,-26.92 0,-26.92 0,-26.42 -1.42,-26.42 ; -1.42,-25.65 0,-25.65 0,-25.15 -1.42,-25.15 ; -1.42,-24.38 0,-24.38 0,-23.88 -1.42,-23.88 ; -1.42,-23.11 0,-23.11 0,-22.61 -1.42,-22.61 ; -1.42,-21.84 0,-21.84 0,-21.34 -1.42,-21.34 ; -1.42,-20.57 0,-20.57 0,-20.07 -1.42,-20.07 ; -1.42,-19.3 0,-19.3 0,-18.8 -1.42,-18.8 ; -1.42,-18.03 0,-18.03 0,-17.53 -1.42,-17.53 ; -1.42,-16.76 0,-16.76 0,-16.26 -1.42,-16.26 ; -1.42,-15.49 0,-15.49 0,-14.99 -1.42,-14.99 ; -1.42,-14.22 0,-14.22 0,-13.72 -1.42,-13.72 ; -1.42,-12.95 0,-12.95 0,-12.45 -1.42,-12.45 ; -1.42,-11.68 0,-11.68 0,-11.18 -1.42,-11.18 ; -1.42,-10.41 0,-10.41 0,-9.91 -1.42,-9.91 ; -1.42,-9.14 0,-9.14 0,-8.64 -1.42,-8.64 ; -1.42,-7.87 0,-7.87 0,-7.37 -1.42,-7.37 ; -1.42,-6.6 0,-6.6 0,-6.1 -1.42,-6.1 ; -1.42,-5.33 0,-5.33 0,-4.83 -1.42,-4.83 ; -1.42,-4.06 0,-4.06 0,-3.56 -1.42,-3.56 ; -1.42,-2.79 0,-2.79 0,-2.29 -1.42,-2.29 ; -1.42,-1.52 0,-1.52 0,-1.02 -1.42,-1.02 ; -1.42,-0.25 0,-0.25 0,0.25 -1.42,0.25 ; -1.42,0.25 -1.42,-43.815 -5.82,-43.815 -5.82,0.635 -1.805,0.635 -1.42,0.25
  text "'.Designator'" at -2.78,-25.637 h1
Top Courtyard:
  lines w0.254: -6.35,-44.3 1.15,-44.3 1.15,1.15 -6.35,1.15 -6.35,-44.3
Top Designator:
  text ".Designator" at -10.218,-22.083 h1.52

## PinSocket_2x35_P1.27mm_Vertical [mm]
pads (70):
  rect 1x1 hole 0.7: 1(0,0)
  round 1 hole 0.7: 2(-1.27,0) 3(0,-1.27) 4(-1.27,-1.27) 5(0,-2.54) 6(-1.27,-2.54) 7(0,-3.81) 8(-1.27,-3.81) 9(0,-5.08) 10(-1.27,-5.08) 11(0,-6.35) 12(-1.27,-6.35) 13(0,-7.62) 14(-1.27,-7.62) 15(0,-8.89) 16(-1.27,-8.89) 17(0,-10.16) 18(-1.27,-10.16) 19(0,-11.43) 20(-1.27,-11.43) 21(0,-12.7) 22(-1.27,-12.7) 23(0,-13.97) 24(-1.27,-13.97) 25(0,-15.24) 26(-1.27,-15.24) 27(0,-16.51) 28(-1.27,-16.51) 29(0,-17.78) 30(-1.27,-17.78) 31(0,-19.05) 32(-1.27,-19.05) 33(0,-20.32) 34(-1.27,-20.32) 35(0,-21.59) 36(-1.27,-21.59) 37(0,-22.86) 38(-1.27,-22.86) 39(0,-24.13) 40(-1.27,-24.13) 41(0,-25.4) 42(-1.27,-25.4) 43(0,-26.67) 44(-1.27,-26.67) 45(0,-27.94) 46(-1.27,-27.94) 47(0,-29.21) 48(-1.27,-29.21) 49(0,-30.48) 50(-1.27,-30.48) 51(0,-31.75) 52(-1.27,-31.75) 53(0,-33.02) 54(-1.27,-33.02) 55(0,-34.29) 56(-1.27,-34.29) 57(0,-35.56) 58(-1.27,-35.56) 59(0,-36.83) 60(-1.27,-36.83) 61(0,-38.1) 62(-1.27,-38.1) 63(0,-39.37) 64(-1.27,-39.37) 65(0,-40.64) 66(-1.27,-40.64) 67(0,-41.91) 68(-1.27,-41.91) 69(0,-43.18) 70(-1.27,-43.18)
F.SilkS:
  lines w0.254: -1.578,-43.875 -2.22,-43.875 -2.22,0.695 -1.578,0.695 ; -0.962,-43.875 -0.308,-43.875 ; -0.962,0.695 -0.76,0.695 ; 0,0.76 0.95,0.76 0.95,0 ; 0.308,-43.875 0.95,-43.875 0.95,-0.635 0.76,-0.635
Top Assembly:
  lines w0.254: -2.16,-43.815 0.89,-43.815 0.89,-0.128 0.128,0.635 -2.16,0.635 -2.16,-43.815
  text "'.Designator'" at 0.205,-25.637 h1
Top Courtyard:
  lines w0.254: -2.67,-44.3 1.38,-44.3 1.38,1.15 -2.67,1.15 -2.67,-44.3
Top Designator:
  text ".Designator" at -8.263,-22.083 h1.52

## PinSocket_2x35_P1.27mm_Vertical_SMD [mm]
pads (70):
  rect 2.1x0.75 smd: 1(1.8,21.59) 2(-1.8,21.59) 3(1.8,20.32) 4(-1.8,20.32) 5(1.8,19.05) 6(-1.8,19.05) 7(1.8,17.78) 8(-1.8,17.78) 9(1.8,16.51) 10(-1.8,16.51) 11(1.8,15.24) 12(-1.8,15.24) 13(1.8,13.97) 14(-1.8,13.97) 15(1.8,12.7) 16(-1.8,12.7) 17(1.8,11.43) 18(-1.8,11.43) 19(1.8,10.16) 20(-1.8,10.16) 21(1.8,8.89) 22(-1.8,8.89) 23(1.8,7.62) 24(-1.8,7.62) 25(1.8,6.35) 26(-1.8,6.35) 27(1.8,5.08) 28(-1.8,5.08) 29(1.8,3.81) 30(-1.8,3.81) 31(1.8,2.54) 32(-1.8,2.54) 33(1.8,1.27) 34(-1.8,1.27) 35(1.8,0) 36(-1.8,0) 37(1.8,-1.27) 38(-1.8,-1.27) 39(1.8,-2.54) 40(-1.8,-2.54) 41(1.8,-3.81) 42(-1.8,-3.81) 43(1.8,-5.08) 44(-1.8,-5.08) 45(1.8,-6.35) 46(-1.8,-6.35) 47(1.8,-7.62) 48(-1.8,-7.62) 49(1.8,-8.89) 50(-1.8,-8.89) 51(1.8,-10.16) 52(-1.8,-10.16) 53(1.8,-11.43) 54(-1.8,-11.43) 55(1.8,-12.7) 56(-1.8,-12.7) 57(1.8,-13.97) 58(-1.8,-13.97) 59(1.8,-15.24) 60(-1.8,-15.24) 61(1.8,-16.51) 62(-1.8,-16.51) 63(1.8,-17.78) 64(-1.8,-17.78) 65(1.8,-19.05) 66(-1.8,-19.05) 67(1.8,-20.32) 68(-1.8,-20.32) 69(1.8,-21.59) 70(-1.8,-21.59)
F.SilkS:
  lines w0.254: -1.33,-22.225 -1.33,-22.285 1.33,-22.285 1.33,-22.225 ; -1.33,22.225 -1.33,22.285 1.33,22.285 1.33,22.225 2.79,22.225
Top Assembly:
  drawing of 215 lines, arcs and shapes, not listed
  text "'.Designator'" at 0.84,-4.047 h1
Top Courtyard:
  lines w0.254: -3.35,-22.7 3.35,-22.7 3.35,22.75 -3.35,22.75 -3.35,-22.7
Top Designator:
  text ".Designator" at -7.618,-0.483 h1.52

## PinSocket_2x36_P1.27mm_Horizontal [mm]
pads (72):
  rect 1x1 hole 0.65: 1(0,0)
  round 1 hole 0.65: 2(-1.27,0) 3(0,-1.27) 4(-1.27,-1.27) 5(0,-2.54) 6(-1.27,-2.54) 7(0,-3.81) 8(-1.27,-3.81) 9(0,-5.08) 10(-1.27,-5.08) 11(0,-6.35) 12(-1.27,-6.35) 13(0,-7.62) 14(-1.27,-7.62) 15(0,-8.89) 16(-1.27,-8.89) 17(0,-10.16) 18(-1.27,-10.16) 19(0,-11.43) 20(-1.27,-11.43) 21(0,-12.7) 22(-1.27,-12.7) 23(0,-13.97) 24(-1.27,-13.97) 25(0,-15.24) 26(-1.27,-15.24) 27(0,-16.51) 28(-1.27,-16.51) 29(0,-17.78) 30(-1.27,-17.78) 31(0,-19.05) 32(-1.27,-19.05) 33(0,-20.32) 34(-1.27,-20.32) 35(0,-21.59) 36(-1.27,-21.59) 37(0,-22.86) 38(-1.27,-22.86) 39(0,-24.13) 40(-1.27,-24.13) 41(0,-25.4) 42(-1.27,-25.4) 43(0,-26.67) 44(-1.27,-26.67) 45(0,-27.94) 46(-1.27,-27.94) 47(0,-29.21) 48(-1.27,-29.21) 49(0,-30.48) 50(-1.27,-30.48) 51(0,-31.75) 52(-1.27,-31.75) 53(0,-33.02) 54(-1.27,-33.02) 55(0,-34.29) 56(-1.27,-34.29) 57(0,-35.56) 58(-1.27,-35.56) 59(0,-36.83) 60(-1.27,-36.83) 61(0,-38.1) 62(-1.27,-38.1) 63(0,-39.37) 64(-1.27,-39.37) 65(0,-40.64) 66(-1.27,-40.64) 67(0,-41.91) 68(-1.27,-41.91) 69(0,-43.18) 70(-1.27,-43.18) 71(0,-44.45) 72(-1.27,-44.45)
F.SilkS:
  lines w0.254: -5.88,-43.815 -1.688,-43.815 ; -5.88,-42.545 -1.688,-42.545 ; -5.88,-41.275 -1.688,-41.275 ; -5.88,-40.005 -1.688,-40.005 ; -5.88,-38.735 -1.688,-38.735 ; -5.88,-37.465 -1.688,-37.465 ; -5.88,-36.195 -1.688,-36.195 ; -5.88,-34.925 -1.688,-34.925 ; -5.88,-33.655 -1.688,-33.655 ; -5.88,-32.385 -1.688,-32.385 ; -5.88,-31.115 -1.688,-31.115 ; -5.88,-29.845 -1.688,-29.845 ; -5.88,-28.575 -1.688,-28.575 ; -5.88,-27.305 -1.688,-27.305 ; -5.88,-26.035 -1.688,-26.035 ; -5.88,-24.765 -1.688,-24.765 ; -5.88,-23.495 -1.688,-23.495 ; -5.88,-22.225 -1.688,-22.225 ; -5.88,-20.955 -1.688,-20.955 ; -5.88,-19.685 -1.688,-19.685 ; -5.88,-18.415 -1.688,-18.415 ; -5.88,-17.145 -1.688,-17.145 ; -5.88,-15.875 -1.688,-15.875 ; -5.88,-14.605 -1.688,-14.605 ; -5.88,-13.335 -1.688,-13.335 ; -5.88,-12.065 -1.688,-12.065 ; -5.88,-10.795 -1.688,-10.795 ; -5.88,-9.525 -1.688,-9.525 ; -5.88,-8.255 -1.688,-8.255 ; -5.88,-6.985 -1.688,-6.985 ; -5.88,-5.715 -1.688,-5.715 ; -5.88,-4.445 -1.688,-4.445 ; -5.88,-3.175 -1.688,-3.175 ; -5.88,-1.905 -1.688,-1.905 ; -5.88,-0.635 -1.688,-0.635 ; -5.88,-0.525 -1.82,-0.525 ; -5.88,-0.415 -1.907,-0.415 ; -5.88,-0.305 -1.966,-0.305 ; -5.88,-0.195 -2.005,-0.195 ; -5.88,-0.085 -2.025,-0.085 ; -5.88,0.025 -2.03,0.025 ; -5.88,0.135 -2.018,0.135 ; -5.88,0.245 -1.989,0.245 ; -5.88,0.355 -1.942,0.355 ; -5.88,0.465 -1.871,0.465 ; -5.88,0.575 -1.767,0.575 ; -1.578,-45.145 -5.88,-45.145 -5.88,0.695 -1.578,0.695 ; 0,0.76 0.76,0.76 0.76,0
Top Assembly:
  lines w0.254: -1.42,-44.7 0,-44.7 0,-44.2 -1.42,-44.2 ; -1.42,-43.43 0,-43.43 0,-42.93 -1.42,-42.93 ; -1.42,-42.16 0,-42.16 0,-41.66 -1.42,-41.66 ; -1.42,-40.89 0,-40.89 0,-40.39 -1.42,-40.39 ; -1.42,-39.62 0,-39.62 0,-39.12 -1.42,-39.12 ; -1.42,-38.35 0,-38.35 0,-37.85 -1.42,-37.85 ; -1.42,-37.08 0,-37.08 0,-36.58 -1.42,-36.58 ; -1.42,-35.81 0,-35.81 0,-35.31 -1.42,-35.31 ; -1.42,-34.54 0,-34.54 0,-34.04 -1.42,-34.04 ; -1.42,-33.27 0,-33.27 0,-32.77 -1.42,-32.77 ; -1.42,-32 0,-32 0,-31.5 -1.42,-31.5 ; -1.42,-30.73 0,-30.73 0,-30.23 -1.42,-30.23 ; -1.42,-29.46 0,-29.46 0,-28.96 -1.42,-28.96 ; -1.42,-28.19 0,-28.19 0,-27.69 -1.42,-27.69 ; -1.42,-26.92 0,-26.92 0,-26.42 -1.42,-26.42 ; -1.42,-25.65 0,-25.65 0,-25.15 -1.42,-25.15 ; -1.42,-24.38 0,-24.38 0,-23.88 -1.42,-23.88 ; -1.42,-23.11 0,-23.11 0,-22.61 -1.42,-22.61 ; -1.42,-21.84 0,-21.84 0,-21.34 -1.42,-21.34 ; -1.42,-20.57 0,-20.57 0,-20.07 -1.42,-20.07 ; -1.42,-19.3 0,-19.3 0,-18.8 -1.42,-18.8 ; -1.42,-18.03 0,-18.03 0,-17.53 -1.42,-17.53 ; -1.42,-16.76 0,-16.76 0,-16.26 -1.42,-16.26 ; -1.42,-15.49 0,-15.49 0,-14.99 -1.42,-14.99 ; -1.42,-14.22 0,-14.22 0,-13.72 -1.42,-13.72 ; -1.42,-12.95 0,-12.95 0,-12.45 -1.42,-12.45 ; -1.42,-11.68 0,-11.68 0,-11.18 -1.42,-11.18 ; -1.42,-10.41 0,-10.41 0,-9.91 -1.42,-9.91 ; -1.42,-9.14 0,-9.14 0,-8.64 -1.42,-8.64 ; -1.42,-7.87 0,-7.87 0,-7.37 -1.42,-7.37 ; -1.42,-6.6 0,-6.6 0,-6.1 -1.42,-6.1 ; -1.42,-5.33 0,-5.33 0,-4.83 -1.42,-4.83 ; -1.42,-4.06 0,-4.06 0,-3.56 -1.42,-3.56 ; -1.42,-2.79 0,-2.79 0,-2.29 -1.42,-2.29 ; -1.42,-1.52 0,-1.52 0,-1.02 -1.42,-1.02 ; -1.42,-0.25 0,-0.25 0,0.25 -1.42,0.25 ; -1.42,0.25 -1.42,-45.085 -5.82,-45.085 -5.82,0.635 -1.805,0.635 -1.42,0.25
  text "'.Designator'" at -2.78,-26.272 h1
Top Courtyard:
  lines w0.254: -6.35,-45.6 1.15,-45.6 1.15,1.15 -6.35,1.15 -6.35,-45.6
Top Designator:
  text ".Designator" at -10.218,-22.733 h1.52

## PinSocket_2x36_P1.27mm_Vertical [mm]
pads (72):
  rect 1x1 hole 0.7: 1(0,0)
  round 1 hole 0.7: 2(-1.27,0) 3(0,-1.27) 4(-1.27,-1.27) 5(0,-2.54) 6(-1.27,-2.54) 7(0,-3.81) 8(-1.27,-3.81) 9(0,-5.08) 10(-1.27,-5.08) 11(0,-6.35) 12(-1.27,-6.35) 13(0,-7.62) 14(-1.27,-7.62) 15(0,-8.89) 16(-1.27,-8.89) 17(0,-10.16) 18(-1.27,-10.16) 19(0,-11.43) 20(-1.27,-11.43) 21(0,-12.7) 22(-1.27,-12.7) 23(0,-13.97) 24(-1.27,-13.97) 25(0,-15.24) 26(-1.27,-15.24) 27(0,-16.51) 28(-1.27,-16.51) 29(0,-17.78) 30(-1.27,-17.78) 31(0,-19.05) 32(-1.27,-19.05) 33(0,-20.32) 34(-1.27,-20.32) 35(0,-21.59) 36(-1.27,-21.59) 37(0,-22.86) 38(-1.27,-22.86) 39(0,-24.13) 40(-1.27,-24.13) 41(0,-25.4) 42(-1.27,-25.4) 43(0,-26.67) 44(-1.27,-26.67) 45(0,-27.94) 46(-1.27,-27.94) 47(0,-29.21) 48(-1.27,-29.21) 49(0,-30.48) 50(-1.27,-30.48) 51(0,-31.75) 52(-1.27,-31.75) 53(0,-33.02) 54(-1.27,-33.02) 55(0,-34.29) 56(-1.27,-34.29) 57(0,-35.56) 58(-1.27,-35.56) 59(0,-36.83) 60(-1.27,-36.83) 61(0,-38.1) 62(-1.27,-38.1) 63(0,-39.37) 64(-1.27,-39.37) 65(0,-40.64) 66(-1.27,-40.64) 67(0,-41.91) 68(-1.27,-41.91) 69(0,-43.18) 70(-1.27,-43.18) 71(0,-44.45) 72(-1.27,-44.45)
F.SilkS:
  lines w0.254: -1.578,-45.145 -2.22,-45.145 -2.22,0.695 -1.578,0.695 ; -0.962,-45.145 -0.308,-45.145 ; -0.962,0.695 -0.76,0.695 ; 0,0.76 0.95,0.76 0.95,0 ; 0.308,-45.145 0.95,-45.145 0.95,-0.635 0.76,-0.635
Top Assembly:
  lines w0.254: -2.16,-45.085 0.89,-45.085 0.89,-0.128 0.128,0.635 -2.16,0.635 -2.16,-45.085
  text "'.Designator'" at 0.205,-26.272 h1
Top Courtyard:
  lines w0.254: -2.67,-45.6 1.38,-45.6 1.38,1.15 -2.67,1.15 -2.67,-45.6
Top Designator:
  text ".Designator" at -8.263,-22.733 h1.52

## PinSocket_2x36_P1.27mm_Vertical_SMD [mm]
pads (72):
  rect 2.1x0.75 smd: 1(1.8,22.225) 2(-1.8,22.225) 3(1.8,20.955) 4(-1.8,20.955) 5(1.8,19.685) 6(-1.8,19.685) 7(1.8,18.415) 8(-1.8,18.415) 9(1.8,17.145) 10(-1.8,17.145) 11(1.8,15.875) 12(-1.8,15.875) 13(1.8,14.605) 14(-1.8,14.605) 15(1.8,13.335) 16(-1.8,13.335) 17(1.8,12.065) 18(-1.8,12.065) 19(1.8,10.795) 20(-1.8,10.795) 21(1.8,9.525) 22(-1.8,9.525) 23(1.8,8.255) 24(-1.8,8.255) 25(1.8,6.985) 26(-1.8,6.985) 27(1.8,5.715) 28(-1.8,5.715) 29(1.8,4.445) 30(-1.8,4.445) 31(1.8,3.175) 32(-1.8,3.175) 33(1.8,1.905) 34(-1.8,1.905) 35(1.8,0.635) 36(-1.8,0.635) 37(1.8,-0.635) 38(-1.8,-0.635) 39(1.8,-1.905) 40(-1.8,-1.905) 41(1.8,-3.175) 42(-1.8,-3.175) 43(1.8,-4.445) 44(-1.8,-4.445) 45(1.8,-5.715) 46(-1.8,-5.715) 47(1.8,-6.985) 48(-1.8,-6.985) 49(1.8,-8.255) 50(-1.8,-8.255) 51(1.8,-9.525) 52(-1.8,-9.525) 53(1.8,-10.795) 54(-1.8,-10.795) 55(1.8,-12.065) 56(-1.8,-12.065) 57(1.8,-13.335) 58(-1.8,-13.335) 59(1.8,-14.605) 60(-1.8,-14.605) 61(1.8,-15.875) 62(-1.8,-15.875) 63(1.8,-17.145) 64(-1.8,-17.145) 65(1.8,-18.415) 66(-1.8,-18.415) 67(1.8,-19.685) 68(-1.8,-19.685) 69(1.8,-20.955) 70(-1.8,-20.955) 71(1.8,-22.225) 72(-1.8,-22.225)
F.SilkS:
  lines w0.254: -1.33,-22.86 -1.33,-22.92 1.33,-22.92 1.33,-22.86 ; -1.33,22.86 -1.33,22.92 1.33,22.92 1.33,22.86 2.79,22.86
Top Assembly:
  drawing of 221 lines, arcs and shapes, not listed
  text "'.Designator'" at 0.84,-4.047 h1
Top Courtyard:
  lines w0.254: -3.35,-23.35 3.35,-23.35 3.35,23.4 -3.35,23.4 -3.35,-23.35
Top Designator:
  text ".Designator" at -7.618,-0.483 h1.52